# Altium footprint library PcbLib.PcbLib: 34 footprints (part 2 of 3)
Each footprint in its own frame and in the unit in brackets; x right, y up, seen from the top. Pads: shape width x height; smd on the part's side, far side on the other; paste and mask are expansions set on the pad; w line width, h text height; cw(c..) or ccw(c..) is an arc to the next point about the centre after c.
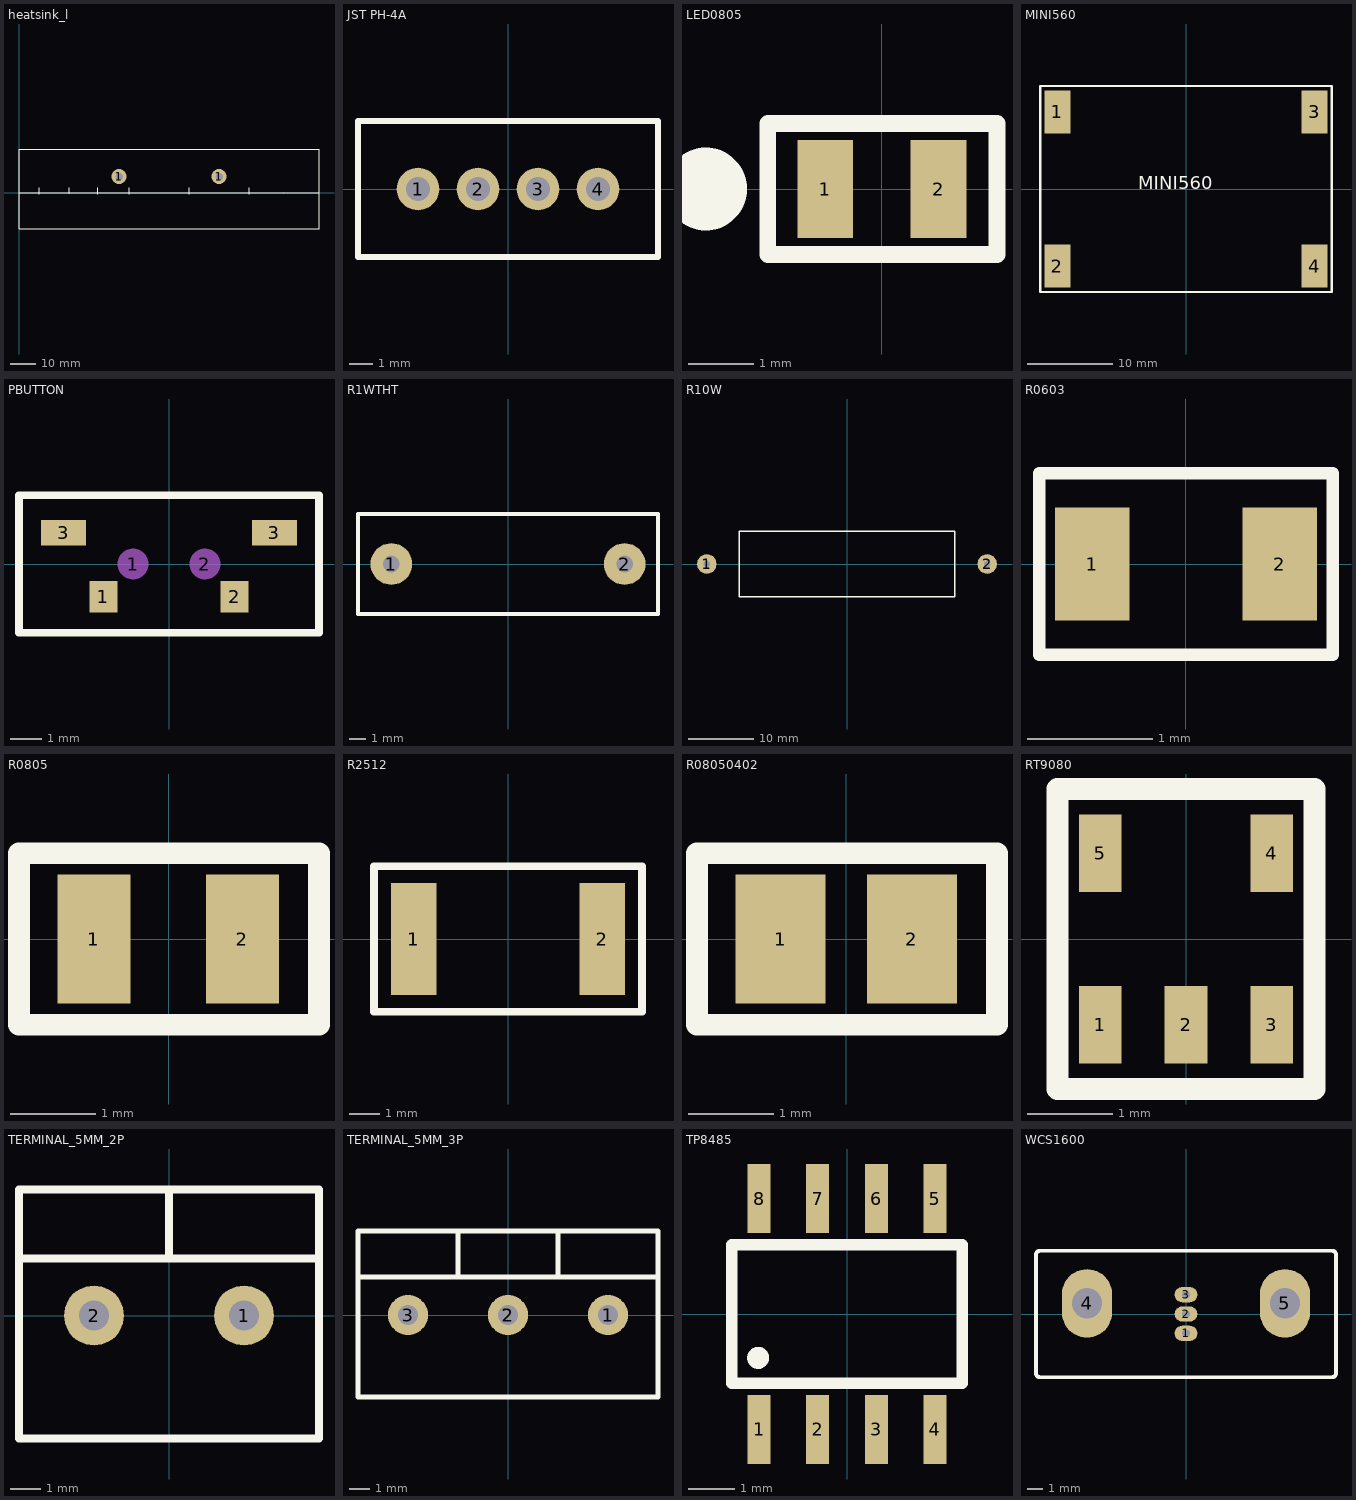
[diagram p1: the footprints below, top view; thin cyan lines are the x and y axes]

## heatsink_l [mm]
pads (2):
  round 6 hole 3: 1(40,6.525) 1(80,6.525)
Top Layer:
  lines w0.254: 105.75,0.05 105.8,0.05
Top Overlay:
  lines w0.254: 0,0.025 120,0.05 ; 8,-0.475 8,2 ; 20,-0.425 20,2.05 ; 31.5,-0.475 31.5,2 ; 44,-0.475 44,2 ; 68,-0.475 68,2 ; 92,-0.475 92,2 ; 0,-14.475 120,-14.475 120,17.525 0,17.525 0,-14.475

## JST PH-4A [mm]
pads (4):
  round 1.8 hole 1: 1(-3.81,0) 2(-1.27,0) 3(1.27,0) 4(3.81,0)
Top Overlay:
  lines w0.254: -6.35,-2.875 6.35,-2.875 6.35,2.875 -6.35,2.875 -6.35,-2.875

## LED0805 [mm] "LED 0805 Package"
pads (2):
  rect 0.85x1.5 smd: 1(-0.866,0) 2(0.866,0)
Top Overlay:
  circle w1: c-2.691,0 r0.132
  lines w0.254: -1.741,-1 1.759,-1 1.759,1 -1.741,1 -1.741,-1

## MINI560 [mm]
pads (4):
  rect 3x5 smd: 1(-15,9) 2(-15,-9) 3(15,9) 4(15,-9)
Top Overlay:
  lines w0.254: -17,-12 17,-12 17,12 -17,12 -17,-12
  text "MINI560" at -5.55,-0.05 h1.52

## PBUTTON [mm]
pads (6):
  rect 0.9x1 smd: 1(-2.1,-1.05) 2(2.1,-1.05)
  round 1 on Mech1: 1(-1.15,0) 2(1.15,0)
  rect 1.45x0.8 smd: 3(-3.375,1) 3(3.375,1)
Top Overlay:
  lines w0.254: -4.8,-2.2 4.8,-2.2 4.8,2.2 -4.8,2.2 -4.8,-2.2

## R1WTHT [mm] "1Watt THT Resistor"
pads (2):
  round 2.5 hole 1: 1(-7,0) 2(7,0)
Top Overlay:
  lines w0.254: -9,-3 9,-3 9,3 -9,3 -9,-3

## R10W [mm]
pads (2):
  round 3 hole 1: 1(-21.5,0) 2(21.5,0)
Top Overlay:
  lines w0.254: -16.5,-5 16.5,-5 16.5,5 -16.5,5 -16.5,-5

## R0603 [mm] "0603 Package"
pads (2):
  rect 0.6x0.9 smd mask+0.102: 1(-0.75,0) 2(0.75,0)
Top Overlay:
  lines w0.1: -1.175,-0.725 1.175,-0.725 1.175,0.725 -1.175,0.725 -1.175,-0.725

## R0805 [mm] "0805 Package"
pads (2):
  rect 0.85x1.5 smd: 1(-0.875,0) 2(0.857,0)
Top Overlay:
  lines w0.254: -1.75,-1 1.75,-1 1.75,1 -1.75,1 -1.75,-1

## R2512 [mm] "2512 Package"
pads (2):
  rect 1.5x3.7 smd: 1(-3.125,0) 2(3.125,0)
Top Overlay:
  lines w0.254: -4.445,-2.413 4.445,-2.413 4.445,2.413 -4.445,2.413 -4.445,-2.413

## R08050402 [mm] "MOdified 0805"
pads (2):
  rect 1.05x1.5 smd: 1(-0.766,0) 2(0.766,0)
Top Overlay:
  lines w0.254: -1.741,-1 1.759,-1 1.759,1 -1.741,1 -1.741,-1

## RT9080 [mm]
pads (5):
  rect 0.5x0.9 smd: 1(-1,-1) 2(0,-1) 3(1,-1) 4(1,1) 5(-1,1)
Top Overlay:
  lines w0.254: -1.5,-1.75 1.5,-1.75 1.5,1.75 -1.5,1.75 -1.5,-1.75

## TERMINAL_5MM_2P [mm] "5mm screw terminal"
pads (2):
  round 2 hole 1: 1(2.5,0) 2(-2.5,0)
Top Overlay:
  lines w0.254: -5,4.138 -5,1.9 5,1.9 ; 0,1.9 0,4.2 ; -5,-4.1 5,-4.1 5,4.2 -5,4.2 -5,-4.1

## TERMINAL_5MM_3P [mm] "5mm screw terminal"
pads (4):
  round 2 hole 1: 1(5,0) 2(0,0) 2(0,0) 3(-5,0)
Top Overlay:
  lines w0.254: -7.5,1.9 7.5,1.9 ; -2.5,1.9 -2.5,4.138 ; 2.5,1.9 2.5,4.2 ; -7.5,-4.1 7.5,-4.1 7.5,4.2 -7.5,4.2 -7.5,-4.1

## TP8485 [mm]
pads (8):
  rect 0.5x1.5 smd: 1(-1.905,-2.5) 2(-0.635,-2.5) 3(0.635,-2.5) 4(1.905,-2.5) 5(1.905,2.5) 6(0.635,2.5) 7(-0.635,2.5) 8(-1.905,2.5)
Top Overlay:
  circle w0.254: c-1.925,-0.95 r0.112
  lines w0.254: -2.5,-1.5 2.5,-1.5 2.5,1.5 -2.5,1.5 -2.5,-1.5

## WCS1600 [mm]
pads (5):
  rrect100% 1.5x1 hole 0.5: 1(0,-1.27) 2(0,0) 3(0,1.27)
  rrect100% 3.3x4.5 hole 2: 4(-6.5,0.7) 5(6.5,0.7)
Top Overlay:
  lines w0.254: -9.85,-3.896 ccw(c-9.596,-3.896) -9.596,-4.15 9.596,-4.15 ccw(c9.596,-3.896) 9.85,-3.896 9.85,3.896 ccw(c9.596,3.896) 9.596,4.15 -9.596,4.15 ccw(c-9.596,3.896) -9.85,3.896 -9.85,-3.896